# Altium footprint library PCB_lib.PcbLib: 13 footprints
Each footprint in its own frame and in the unit in brackets; x right, y up, seen from the top. Pads: shape width x height; smd on the part's side, far side on the other; paste and mask are expansions set on the pad; w line width, h text height; cw(c..) or ccw(c..) is an arc to the next point about the centre after c.
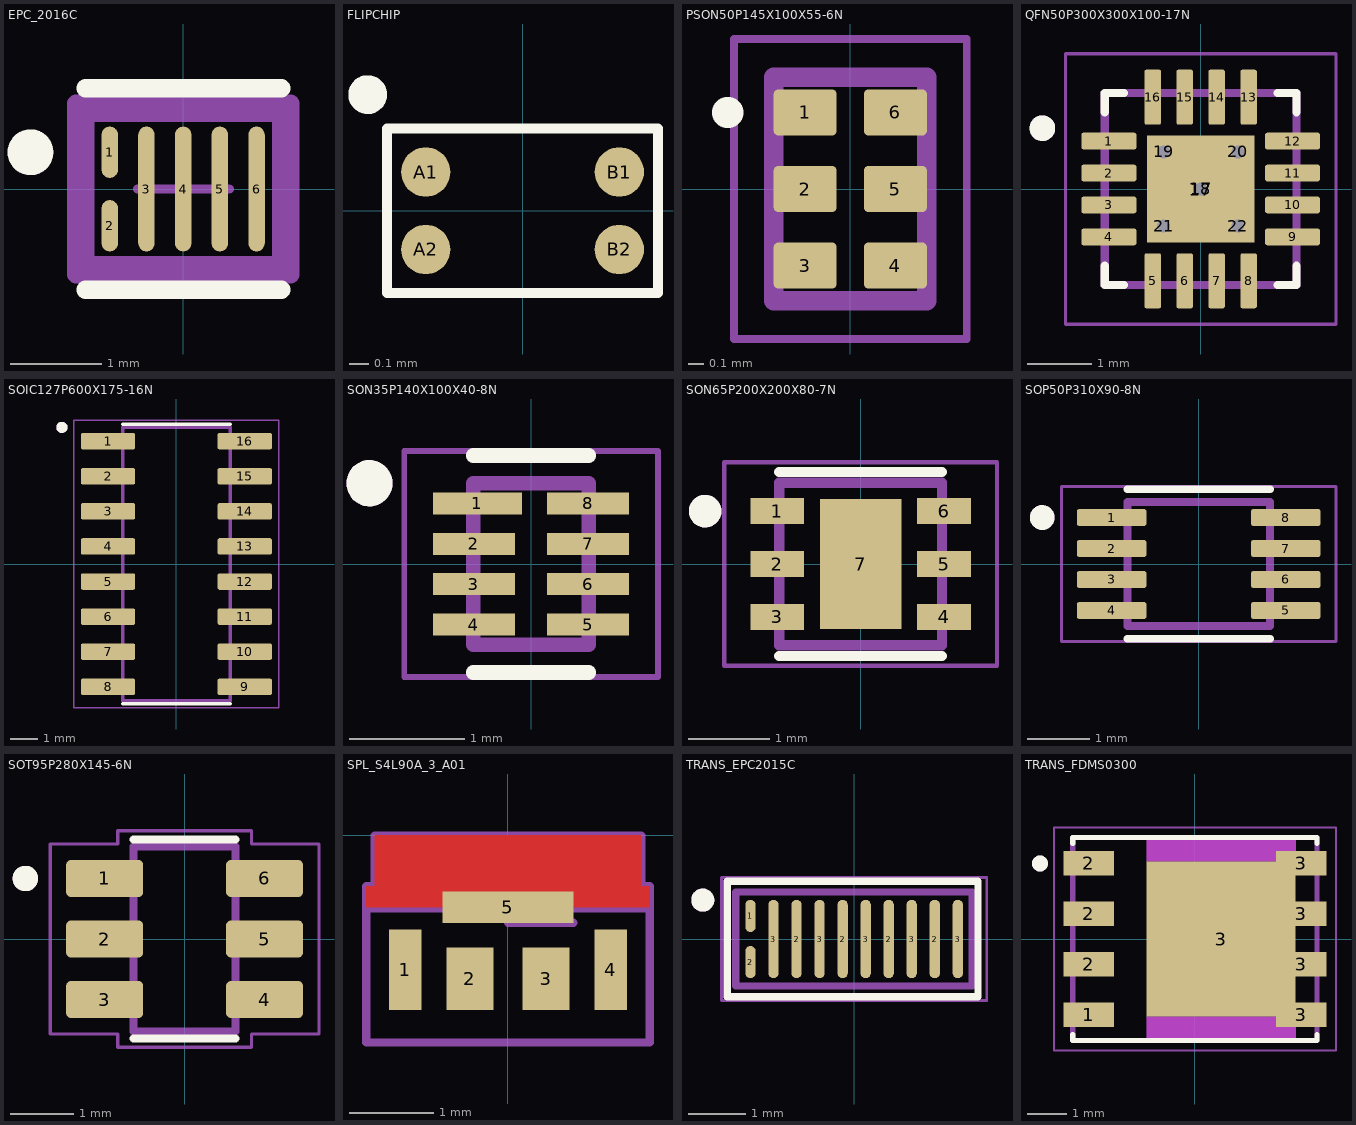
[diagram p0: the footprints below, top view; thin cyan lines are the x and y axes]

## EPC_2016C [mm]
pads (6):
  rrect100% 0.18x0.56 smd paste-1000 mask-1000: 1(-0.803,0.401) 2(-0.803,-0.401)
  rrect100% 0.18x1.362 smd paste-1000 mask-1000: 3(-0.403,0) 4(-0.003,0) 5(0.397,0) 6(0.797,0)
Top Overlay:
  circle w0.25: c-1.668,0.401 r0.125
  lines w0.2: -1.068,-1.1 1.068,-1.1 ; -1.068,1.1 1.068,1.1
Top Paste:
  drawing of 6 lines, arcs and shapes, not listed
Top Solder:
  drawing of 6 lines, arcs and shapes, not listed
Mechanical 10:
  lines w0.2: -1.168,-0.931 1.168,-0.931 1.168,0.931 -1.168,0.931 -1.168,-0.931
  text ".Designator" at 0,-0.001 h1
Mechanical 12:
  lines w0.2: -1.068,-0.831 1.068,-0.831 1.068,0.831 -1.068,0.831 -1.068,-0.831
Mechanical 15:
  lines w0.1: -0.5,0 0.5,0 ; 0,-0.5 0,0.5
  lines w0.2: -1.168,-0.931 1.168,-0.931 1.168,0.931 -1.168,0.931 -1.168,-0.931
3D body "Trans_EPC_EPC2016C_eec.STEP": height 0.25, standoff 0, extent -1.168,-0.931 1.168,0.931

## FLIPCHIP [mm]
pads (4):
  round 0.255 smd: A1(-0.5,0.2) A2(-0.5,-0.2) B1(0.5,0.2) B2(0.5,-0.2)
Top Overlay:
  circle w0.1: c-0.8,0.6 r0.05
  lines w0.05: -0.7,-0.425 -0.7,0.425 0.7,0.425 0.7,-0.425 -0.7,-0.425
3D body "BALF-NRG-01D3--3DModel-STEP-56544.STEP": height 0.68, standoff 0, extent -0.7,-0.4 0.7,0.45

## PCBComponent_1 [mm]

## PSON50P145X100X55-6N [mm]
pads (6):
  rrect18% 0.41x0.3 smd: 1(-0.295,0.5) 2(-0.295,0) 3(-0.295,-0.5) 4(0.295,-0.5) 5(0.295,0) 6(0.295,0.5)
Top Overlay:
  circle w0.2: c-0.8,0.5 r0.003
Mechanical 13:
  lines w0.127: -0.5,-0.73 0.5,-0.73 0.5,0.73 -0.5,0.73 -0.5,-0.73
Mechanical 15:
  lines w0.05: -0.76,-0.98 0.76,-0.98 0.76,0.98 -0.76,0.98 -0.76,-0.98
3D body "NC7WZ16L6X.STEP": height 0.55, standoff 0, extent -0.5,-0.725 0.5,0.725

## QFN50P300X300X100-17N [mm]
pads (22):
  rrect25% 0.86x0.26 smd: 1(-1.435,0.75) 2(-1.435,0.25) 3(-1.435,-0.25) 4(-1.435,-0.75) 9(1.435,-0.75) 10(1.435,-0.25) 11(1.435,0.25) 12(1.435,0.75)
  rrect25% 0.26x0.86 smd: 5(-0.75,-1.435) 6(-0.25,-1.435) 7(0.25,-1.435) 8(0.75,-1.435) 13(0.75,1.435) 14(0.25,1.435) 15(-0.25,1.435) 16(-0.75,1.435)
  rect 1.68x1.68 smd paste-2: 17(0,0)
  round 0.4 hole 0.2 mask+0: 18(0,0) 19(-0.58,0.58) 20(0.58,0.58) 21(-0.58,-0.58) 22(0.58,-0.58)
Top Overlay:
  circle w0.2: c-2.475,0.95 r0.1
  lines w0.127: -1.5,-1.2 -1.5,-1.5 -1.2,-1.5 ; -1.5,1.2 -1.5,1.5 -1.2,1.5 ; 1.2,-1.5 1.5,-1.5 1.5,-1.2 ; 1.2,1.5 1.5,1.5 1.5,1.2
Top Paste:
  region: 0.53,-0.53 -0.53,-0.53 -0.53,0.53 0.53,0.53
Mechanical 13:
  circle w0.2: c-2.475,0.95 r0.1
  lines w0.127: -1.5,-1.5 -1.5,1.5 1.5,1.5 1.5,-1.5 -1.5,-1.5
Mechanical 15:
  lines w0.05: -2.115,-2.115 -2.115,2.115 2.115,2.115 2.115,-2.115 -2.115,-2.115
3D body "TPS54226RGTR.STEP": height 1, standoff 0, extent -1.5,-1.5 1.5,1.5

## SOIC127P600X175-16N [mm]
pads (16):
  rrect25% 1.97x0.6 smd: 1(-2.475,4.445) 2(-2.475,3.175) 3(-2.475,1.905) 4(-2.475,0.635) 5(-2.475,-0.635) 6(-2.475,-1.905) 7(-2.475,-3.175) 8(-2.475,-4.445) 9(2.475,-4.445) 10(2.475,-3.175) 11(2.475,-1.905) 12(2.475,-0.635) 13(2.475,0.635) 14(2.475,1.905) 15(2.475,3.175) 16(2.475,4.445)
Top Overlay:
  circle w0.2: c-4.145,4.945 r0.1
  lines w0.127: -1.95,-5.065 1.95,-5.065 ; -1.95,5.065 1.95,5.065
Mechanical 13:
  circle w0.2: c-4.145,4.945 r0.1
  lines w0.127: -1.95,-4.95 1.95,-4.95 1.95,4.95 -1.95,4.95 -1.95,-4.95
Mechanical 15:
  lines w0.05: -3.71,-5.2 3.71,-5.2 3.71,5.2 -3.71,5.2 -3.71,-5.2
3D body "SN74LS145D.STEP": height 1.75, standoff 0, extent -2.997,-4.978 2.997,4.928

## SON35P140X100X40-8N [mm]
pads (8):
  rect 0.77x0.19 smd: 1(-0.465,0.525)
  rect 0.71x0.19 smd: 2(-0.495,0.175) 3(-0.495,-0.175) 4(-0.495,-0.525) 5(0.495,-0.525) 6(0.495,-0.175) 7(0.495,0.175) 8(0.495,0.525)
Top Overlay:
  circle w0.2: c-1.4,0.7 r0.1
  lines w0.127: -0.5,-0.94 0.5,-0.94 ; -0.5,0.94 0.5,0.94
Mechanical 13:
  circle w0.2: c-1.4,0.7 r0.1
  lines w0.127: -0.5,-0.7 0.5,-0.7 0.5,0.7 -0.5,0.7 -0.5,-0.7
Mechanical 15:
  lines w0.05: -1.1,-0.98 1.1,-0.98 1.1,0.98 -1.1,0.98 -1.1,-0.98
3D body "step_temp.STEP": height 0.4, standoff 0, extent -0.5,-0.7 0.5,0.7

## SON65P200X200X80-7N [mm]
pads (7):
  rect 0.66x0.32 smd: 1(-1.025,0.65) 2(-1.025,0) 3(-1.025,-0.65) 4(1.025,-0.65) 5(1.025,0) 6(1.025,0.65)
  rect 1x1.6 smd paste-2: 7(0,0)
Top Overlay:
  circle w0.2: c-1.91,0.65 r0.1
  lines w0.127: -1,-1.13 1,-1.13 ; -1,1.13 1,1.13
Top Paste:
  region: 0.316,-0.506 -0.316,-0.506 -0.316,0.506 0.316,0.506
Mechanical 13:
  circle w0.2: c-1.91,0.65 r0.1
  lines w0.127: -1,-1 1,-1 1,1 -1,1 -1,-1
Mechanical 15:
  lines w0.05: -1.675,-1.25 1.675,-1.25 1.675,1.25 -1.675,1.25 -1.675,-1.25
3D body "step_temp.STEP": height 0.8, standoff 0, extent -1,-1 1,1

## SOP50P310X90-8N [mm]
pads (8):
  rrect25% 1.12x0.27 smd: 1(-1.405,0.75) 2(-1.405,0.25) 3(-1.405,-0.25) 4(-1.405,-0.75) 5(1.405,-0.75) 6(1.405,-0.25) 7(1.405,0.25) 8(1.405,0.75)
Top Overlay:
  circle w0.2: c-2.525,0.75 r0.1
  lines w0.127: -1.15,-1.205 1.15,-1.205 ; -1.15,1.205 1.15,1.205
Mechanical 13:
  circle w0.2: c-2.525,0.75 r0.1
  lines w0.127: -1.15,-1 1.15,-1 1.15,1 -1.15,1 -1.15,-1
Mechanical 15:
  lines w0.05: -2.215,-1.25 2.215,-1.25 2.215,1.25 -2.215,1.25 -2.215,-1.25
3D body "step_temp.STEP": height 0.9, standoff 0, extent -1.55,-1 1.55,1

## SOT95P280X145-6N [mm]
pads (6):
  rrect25% 1.21x0.58 smd: 1(-1.255,0.95) 2(-1.255,0) 3(-1.255,-0.95) 4(1.255,-0.95) 5(1.255,0) 6(1.255,0.95)
Top Overlay:
  circle w0.2: c-2.5,0.95 r0.1
  lines w0.127: -0.8,-1.56 0.8,-1.56 ; -0.8,1.56 0.8,1.56
Mechanical 13:
  circle w0.2: c-2.5,0.95 r0.1
  lines w0.127: -0.8,-1.45 0.8,-1.45 0.8,1.45 -0.8,1.45 -0.8,-1.45
Mechanical 15:
  lines w0.05: -2.11,-1.49 -1.05,-1.49 -1.05,-1.7 1.05,-1.7 1.05,-1.49 2.11,-1.49 2.11,1.49 1.05,1.49 1.05,1.7 -1.05,1.7 -1.05,1.49 -2.11,1.49 -2.11,-1.49
3D body "SN74LVC2G34DBVT.STEP": height 1.45, standoff 0, extent -1.4,-1.45 1.4,1.45

## SPL_S4L90A_3_A01 [mm]
pads (5):
  rect 0.385x0.95 smd: 1(-1.218,-1.59) 4(1.218,-1.59)
  rect 0.56x0.74 smd: 2(-0.45,-1.695) 3(0.45,-1.695)
  rect 1.55x0.375 smd: 5(0,-0.847)
Top Layer:
  region: 0,-0.847 -0.003,-0.85 -1.675,-0.85 -1.675,-0.6 -1.575,-0.6 -1.575,0 1.575,0 1.575,-0.6 1.675,-0.6 1.675,-0.85
Top Solder:
  region: -1.575,0 -1.775,0 -1.775,-0.6 -1.575,-0.6
  rectangle: 1.575,-0.6 1.775,0
Mechanical 1:
  lines w0.1: -1.675,-0.85 -1.675,-0.6 -1.575,-0.6 -1.575,0 0,0 ; 0.775,-1.035 0,-1.035 0,0 ; 1.675,-0.85 1.675,-0.6 1.575,-0.6 ; 0,0 1.575,0 ; 0,0 1.575,0 ; 1.575,-0.6 1.575,0 ; 1.575,-0.6 1.575,0 ; -1.675,-2.45 -1.2,-2.45 1.675,-2.45 1.675,-0.86 0,-0.86 -1.675,-0.86 -1.675,-2.45
3D body "SPL_S4L90A_3_A01_20210810_geometry.STEP": height 0.68, standoff 0, extent -1.675,-2.45 1.675,0

## TRANS_EPC2015C [mm]
pads (11):
  oval 0.18x0.56 smd paste-1: 1(-1.8,0.401) 2(-1.8,-0.401)
  oval 0.18x1.362 smd paste-2: 2(-1,0) 2(-0.2,0) 2(0.6,0) 2(1.4,0) 3(-1.4,0) 3(-0.6,0) 3(0.2,0) 3(1,0) 3(1.8,0)
Top Overlay:
  circle w0.2: c-2.628,0.675 r0.1
  lines w0.127: -2.205,-1.001 -2.205,1.001 2.15,1.001 2.15,-1.001 -2.205,-1.001
Top Paste:
  drawing of 11 lines, arcs and shapes, not listed
Mechanical 13:
  circle w0.2: c-2.628,0.675 r0.1
  lines w0.127: -2.053,-0.817 -2.053,0.817 2.053,0.817 2.053,-0.817 -2.053,-0.817
Mechanical 15:
  lines w0.05: -2.302,-1.068 2.302,-1.068 2.302,1.068 -2.302,1.068 -2.302,-1.068

## TRANS_FDMS0300 [mm]
pads (9):
  rect 1.27x0.61 smd: 1(-2.67,-1.905) 2(-2.67,-0.635) 2(-2.67,0.635) 2(-2.67,1.905) 3(2.67,-1.905) 3(2.67,-0.635) 3(2.67,0.635) 3(2.67,1.905)
  rect 3.75x3.91 smd: 3(0.66,0)
Top Overlay:
  circle w0.2: c-3.9,1.9 r0.1
  lines w0.127: -3.075,-2.4 -3.075,-2.55 3.075,-2.55 3.075,-2.4 ; -3.075,2.4 -3.075,2.55 3.075,2.55 3.075,2.4
Keep-Out Layer:
  region: 2.035,1.958 -1.212,1.958 -1.212,2.55 2.035,2.55
  region: 2.535,2.201 2.031,2.201 2.031,2.55 2.535,2.55
  region: 2.035,-2.554 -1.217,-2.554 -1.217,-1.955 2.035,-1.955
  region: 2.54,-2.562 2.036,-2.562 2.036,-2.21 2.54,-2.21
Mechanical 13:
  circle w0.2: c-3.9,1.9 r0.1
  lines w0.127: -3.075,-2.55 3.075,-2.55 3.075,2.55 -3.075,2.55 -3.075,-2.55
Mechanical 15:
  region: 2.035,1.956 -1.21,1.956 -1.21,2.55 2.035,2.55
  region: 2.535,2.201 2.031,2.201 2.031,2.55 2.535,2.55
  region: 2.035,-2.553 -1.216,-2.553 -1.216,-1.955 2.035,-1.955
  region: 2.54,-2.562 2.036,-2.562 2.036,-2.21 2.54,-2.21
  lines w0.05: -3.55,-2.8 3.55,-2.8 3.55,2.8 -3.55,2.8 -3.55,-2.8
3D body "FDMS86163P.STEP": height 1.1, standoff 0, extent -3.075,-2.5 3.075,2.5